# Altium schematic symbol library Schlib1.SchLib: 43 symbols
Pins are listed as number, name and electrical type; pins without a type are passive.

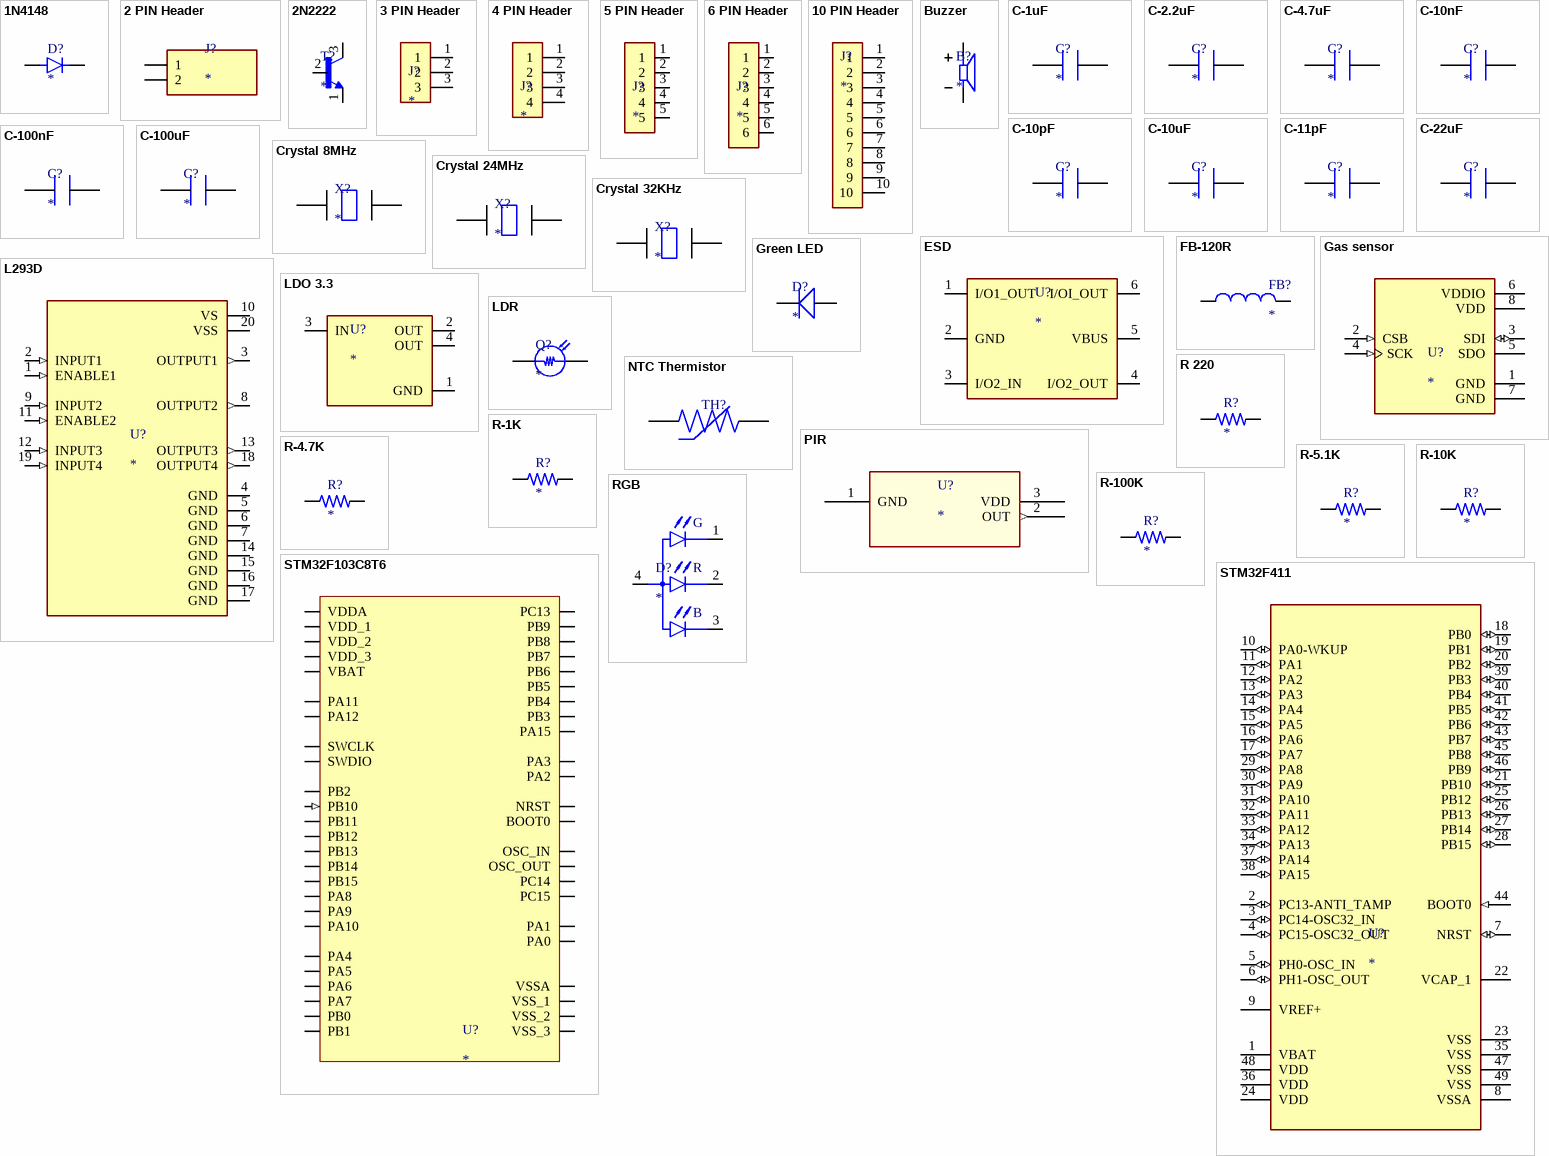
[diagram p0: symbols 1N4148 to STM32F411]

## 1N4148
designator D?
DIODE GP 100V 200mA DO-35; MFR: onsemi; MFR Part#: 1N4148; Supplier: LCSC; Supplier Part#: C258182; ComponentLink1Description: New link; ComponentLink1URL: https://www.lcsc.com/product-detail/C258182.html?s_z=n_q_x_1N4148&spm=wm.ssy.em.0.tz&lcsc_vid=T1EIXgIEFgJdUgdfFAVeA1ADFlcIAQJWFVRdA1ZXFlMxVlNeT1JbXlNXRVlfUTsOAxUeFF5JWBYZEEoKFBINSQcJGk4eFQsCAgIaSgADAwAHC0slRVFYVlJVRlhADxALGw%3D%3D
footprint DIOM3413X180N (Molded Diode, 2-Leads, Body 3.45x1.30mm, IPC Medium Density)
pins: A, K

## 2 PIN Header
designator J?
Pin Header 2 Position Dual Row Through Hole -55℃~+125℃; MFR: Samtec; MFR Part#: MTSW-101-09-L-D-515; Supplier: LCSC; Supplier Part#: C5684114; ComponentLink1Description: New link; ComponentLink1URL: https://www.lcsc.com/product-detail/C5684114.html?s_z=n_q_MTSW-101-09-L-D-515&spm=wm.fly.bg.0.cbh&lcsc_vid=T1EIXgIEFgJdUgdfFAVeA1ADFlcIAQJWFVRdA1ZXFlMxVlNeT1JYX1JeRVhXUjsOAxUeFF5JWBYZEEoKFBINSQcJGk4eFQsCAgIaSgADAwAHC0slRVhZVlZfRE8GEwkK
footprint 2 PIN Header
pins: 1, 2

## 2N2222
designator T?
NPN Plastic-Encapsulate Transistors; MFR: HXY MOSFET; MFR Part#: 2N2222A; Supplier: LCSC; Supplier Part#: C20616319; ComponentLink1Description: New link; ComponentLink1URL: https://www.lcsc.com/product-detail/C20616319.html?s_z=n_q_x_2N2222A&spm=wm.ssy.em.0.tz&lcsc_vid=T1EIXgIEFgJdUgdfFAVeA1ADFlcIAQJWFVRdA1ZXFlMxVlNeT1JbXlRVT1ZXXjsOAxUeFF5JWBYZEEoKFBINSQcJGk4NBhADEA4cHktXQFJaSQwSGg0%3D
footprint 2N2222
pins: 1 E, 2 B, 3 C

## 3 PIN Header
designator J?
Parameter 1: *; Parameter 2: *; Parameter 3: *; Parameter 4: *; ComponentLink1Description: New link; ComponentLink1URL: *
footprint PIN 3 Header
pins: 1, 2, 3

## 4 PIN Header
designator J?
MFR: hanxia; MFR PART #: HX PH254-01-04-Z-L11.5 straight pin header; SUPPLIER: LCSC; SUPPLIER PART #: C52016392; ComponentLink1Description: New link; ComponentLink1URL: https://www.lcsc.com/product-detail/C52016392.html?s_z=n_q_t_4%2520PIN%2520Header&spm=wm.fly.bg.0.xh___wm.ssy.tc.0.tz&lcsc_vid=QgVYVVJWE1VfXwZQRQQNBFIETgIPBFxQQFYPXlAFEgMxVlNeQFVcUFVeQFNaVjsOAxUeFF5JWBYZEEoKFBINSQcJGk4eFQsCAgIaSgADAwAHC0slRVNXUVZIHxUDCw%3D%3D
footprint Header 4pin
pins: 1, 2, 3, 4

## 5 PIN Header
designator J?
MFR: Samtec; MFR PART #: TW-05-06-G-S-325-100; SPN PART #: C6574167; SPN: LCSC; ComponentLink1Description: New link; ComponentLink1URL: https://www.lcsc.com/product-detail/C6574167.html?s_z=n_q_C6574167&globalKeyword=C6574167
footprint 5 PIN HEADER
pins: 1, 2, 3, 4, 5

## 6 PIN Header
designator J?
MFR: hanxia; MFR PART #: HX PH200-02-06-S-L8.0-D pin header; SPN PART #: C52016389; SPN: LCSC; ComponentLink1Description: New link; ComponentLink1URL: https://www.lcsc.com/product-detail/C52016389.html?s_z=n_q_t_6%2520pin%2520header&spm=wm.fly.bg.2.cbh___wm.ssy.tc.0.tz&lcsc_vid=QFZbUgBVFFkNBVVUFAUIUwJQFFQLVAJVRwdaVFNRRlYxVlNeQFdeVldfQ1BWVDsOAxUeFF5JWBYZEEoKFBINSQcJGk4eFQsCAgIaSgADAwAHC0slQVRZU1VQQE8GEwkK
footprint 6 PIN HEADER
pins: 1, 2, 3, 4, 5, 6

## 10 PIN Header
designator J?
MFR: TE Connectivity; MFR PART #: 1-826631-0; SPN PART #: C3333605; SPN: LCSC; ComponentLink1Description: New link; ComponentLink1URL: https://www.lcsc.com/product-detail/C3333605.html?s_z=n_q_1-826631-0&spm=wm.fly.bg.0.cbh&lcsc_vid=QgVYVVJWE1VfXwZQRQQNBFIETgIPBFxQQFYPXlAFEgMxVlNeQFVWUlRXQFNbXjsOAxUeFF5JWBYZEEoKFBINSQcJGk4%3D
footprint 10 PIN Header
pins: 1, 2, 3, 4, 5, 6, 7, 8, 9, 10

## Buzzer
designator B?
Through Hole Alarms, Buzzers, and Sirens RoHS; MFR: CUI; MFR Part#: CMI-1210-5-95T; Supplier: LCSC; Supplier Part#: C6485139; ComponentLink1Description: New link; ComponentLink1URL: https://www.lcsc.com/product-detail/C6485139.html?s_z=n_q_CMI-1210-5-95T&spm=wm.fly.bg.0.xh&lcsc_vid=T1EIXgIEFgJdUgdfFAVeA1ADFlcIAQJWFVRdA1ZXFlMxVlNeT1JbX1FfQ1lXVDsOAxUeFF5JWBYZEEoKFBINSQcJGk4eFQsCAgIaSgADAwAHC0slRlNXVlFXWQkaCgg%3D
footprint Buzzer
pins: N, P

## C-1uF
designator C?
MFR: Samsung Electro-Mechanics; MFR PART#: CL10B105KA8NNNC; SUPPLIER: LCSC; ComponentLink1Description: New link; ComponentLink1URL: https://www.lcsc.com/product-detail/C29936.html?s_z=n_q_t_Capacitor%25201uF&spm=wm.fly.bg.0.cbh___wm.ssy.tc.0.tz&lcsc_vid=QgVYVVJWE1VfXwZQRQQNBFIETgIPBFxQQFYPXlAFEgMxVlNeQFJXUFdQT1hcVzsOAxUeFF5JWBYZEEoKFBINSQcJGk4eFQsCAgIaSgADAwAHC0slRlFeV1BUWQkaCgg%3D; SUPPLIER PART#: C29936
footprint CAPC0804X80N (Chip Capacitor, 2-Leads, Body 0.85x0.45mm, IPC Medium Density)
pins: 1, 2

## C-2.2uF
designator C?
MFR: YAGEO; MFR PART#: CC1206KKX7R0BB225; SPN PART #: C577211; SPN: LCSC; ComponentLink1Description: New link; ComponentLink1URL: https://www.lcsc.com/product-detail/C577211.html?s_z=n_q_t_capacitor%25202.2u&spm=wm.fly.bg.0.cbh___wm.ssy.tc.0.tz&lcsc_vid=QgVYVVJWE1VfXwZQRQQNBFIETgIPBFxQQFYPXlAFEgMxVlNeQFRWUF1URFhbUTsOAxUeFF5JWBYZEEoKFBINSQcJGk4dAgUUFAk%3D
footprint CAPC1809X80N (Chip Capacitor, 2-Leads, Body 1.75x0.90mm, IPC Medium Density)
pins: 1, 2

## C-4.7uF
designator C?
MFR: SAMYOUNG; MFR PART #: MVK 50V4.7 5*5.2; SUPPLIER: LCSC; SUPPLIER PART #: C165626; ComponentLink1Description: New link; ComponentLink1URL: https://www.lcsc.com/product-detail/C165626.html?s_z=n_q_C165626&globalKeyword=C165626
footprint CAPC1007X45N (Chip Capacitor, 2-Leads, Body 1.05x0.68mm, IPC Medium Density)
pins: 1, 2

## C-10nF
designator C?
MFR: YAGEO; MFR PART #: CC0603KRX7R9BB103; SUPPLIER: LCSC; SUPPLIER PART#: C100042; ComponentLink1Description: New link; ComponentLink1URL: https://www.lcsc.com/product-detail/C100042.html?s_z=n_q_t_capacitor%252010nf&spm=wm.fly.bg.0.cbh___wm.ssy.tc.0.tz&lcsc_vid=QgVYVVJWE1VfXwZQRQQNBFIETgIPBFxQQFYPXlAFEgMxVlNeQFJXUFVVQFVZXjsOAxUeFF5JWBYZEEoKFBINSQcJGk4eFQsCAgIaSgADAwAHC0slRlBWVVxeWQkaCgg%3D
footprint CAPC0804X80N (Chip Capacitor, 2-Leads, Body 0.85x0.45mm, IPC Medium Density)
pins: 1, 2

## C-10pF
designator C?
MFR: Samsung Electro-Mechanics; MFR PART #: CL10C100JB8NNNC; SUPPLIER: LCSC; SUPPLIER PART #: C1634; ComponentLink1Description: New link; ComponentLink1URL: C1634
footprint C-10pF (Chip Capacitor, 2-Leads, Body 2.45x1.75mm, IPC Medium Density)
pins: 1, 2

## C-10uF
designator C?
MFR: Samsung Electro-Mechanics; MFR PART #: CL31A106KBHNNNE; SUPPLIER: LCSC; SUPPLIER PART #: C13585; ComponentLink1Description: New link; ComponentLink1URL: https://www.lcsc.com/product-detail/C13585.html?s_z=n_q_t_Capacitor%252010u&spm=wm.fly.bg.0.cbh___wm.ssy.tc.0.tz&lcsc_vid=QgVYVVJWE1VfXwZQRQQNBFIETgIPBFxQQFYPXlAFEgMxVlNeQFVeXldRQVBdXjsOAxUeFF5JWBYZEEoKFBINSQcJGk4dAgUUFAk%3D
footprint C-10uF (Chip Capacitor, 2-Leads, Body 1.68x0.88mm, IPC Medium Density)
pins: 1, 2

## C-11pF
designator C?
MFR: muRata; MFR PART: GRM0335C1E110JA01D; SUPPLIER: LCSC; SUPPLIER PART #: C2183483
footprint C-10pF (Chip Capacitor, 2-Leads, Body 2.45x1.75mm, IPC Medium Density)
pins: 1, 2

## C-22uF
designator C?
MFR: muRata; MJFR PART #: GRM21BR61E226ME44L; SUPPLIER: LCSC; SUPPLIER PART #: C86816; ComponentLink1Description: New link; ComponentLink1URL: *; ComponentLink2Description: New link 1; ComponentLink2URL: https://www.lcsc.com/product-detail/C86816.html?s_z=n_q_t_Capacitor%252022uf&spm=wm.fly.bg.0.cbh___wm.ssy.tc.0.tz&lcsc_vid=QgVYVVJWE1VfXwZQRQQNBFIETgIPBFxQQFYPXlAFEgMxVlNeQFVeXlFSR1laVzsOAxUeFF5JWBYZEEoKFBINSQcJGk4eFQsCAgIaSgADAwAHC0slRlJbX1FIHxUDCw%3D%3D
footprint C-22uF (Chip Capacitor, 2-Leads, Body 1.10x0.73mm, IPC Medium Density)
pins: 1, 2

## C-100nF
designator C?
MFR: TDK; MFR PART#: CGA5L2X7R2A104KT0Y0U; SUPPLIER: LCSC; SUPPLIER PART#: C338057; ComponentLink1Description: New link; ComponentLink1URL: https://www.lcsc.com/product-detail/C338057.html?s_z=n_q_C338057&globalKeyword=C338057
footprint CAPC1007X45N (Chip Capacitor, 2-Leads, Body 1.05x0.68mm, IPC Medium Density)
pins: 1, 2

## C-100uF
designator C?
CAP CER 100uF 6.3V X5R 1206; MFR: Samsung Electro-Mechanics; MFR Part#: CL31A107MQHNNNE; ComponentLink1Description: New link; ComponentLink1URL: https://www.lcsc.com/product-detail/C15008.html?s_z=n_q_t_Capacitor%2520100u&spm=wm.fly.bg.0.xh___wm.ssy.tc.0.tz&lcsc_vid=T1EIXgIEFgJdUgdfFAVeA1ADFlcIAQJWFVRdA1ZXFlMxVlNeT1JZV1BfR1VbUTsOAxUeFF5JWBYZEEoKFBINSQcJGk4NBhADEA4cHktRTlNADxALGw%3D%3D; Supplier: LCSC; Supplier Part#: C15008
footprint CAPC1709X35N (Chip Capacitor, 2-Leads, Body 1.70x0.90mm, IPC Medium Density)
pins: 1, 2

## Crystal 8MHz
designator X?
CRYSTAL 8MHz 12pF SMD; MFR: YXC Crystal Oscillators; MFR PART #: X32258MOB4SI; SUPPLIER: LCSC; SUPPLIER PART #: C2682775; ComponentLink1Description: New link; ComponentLink1URL: https://www.lcsc.com/product-detail/C2682775.html?s_z=n_q_crystal%25208&spm=wm.fly.bg.0.cbh&lcsc_vid=QgVYVVJWE1VfXwZQRQQNBFIETgIPBFxQQFYPXlAFEgMxVlNeQFJXX1JeQlVYUDsOAxUeFF5JWBYZEEoKFBINSQcJGk4eFQsCAgIaSgADAwAHC0slRFJWV1FRWQkaCgg%3D
footprint crystal 8Mz
pins: 1, 2

## Crystal 24MHz
designator X?
MFR: YXC Crystal Oscillators; MFR PART #: XL7EL89CKI-111YLC-24M; SPN PART #: C2965580; SPN: LCSC; ComponentLink1Description: New link; ComponentLink1URL: *https://www.lcsc.com/product-detail/C2965580.html?s_z=n_q_Crystal%252024MHz&spm=wm.fly.bg.0.cbh&lcsc_vid=QFZbUgBVFFkNBVVUFAUIUwJQFFQLVAJVRwdaVFNRRlYxVlNeQFdeVFZQQlBeVDsOAxUeFF5JWBYZEEoKFBINSQcJGk4NBhADEA4cHktRTlNADxALGw%3D%3D
footprint crystal 8Mz
pins: 1, 2

## Crystal 32KHz
designator X?
Crystal 32kHz ±100ppm 11pF 35kΩ DT-26; MFR: EPSON; MFR PART#: C-2 32.0000K-P:PBFREE; ComponentLink1Description: New link; ComponentLink1URL: https://www.lcsc.com/product-detail/C1669824.html?s_z=n_q_p_MC-306%252032.0000K-G%253A%2520PURE%2520SN.&spm=wm.ssy.bg.1.cbh&lcsc_vid=QgVYVVJWE1VfXwZQRQQNBFIETgIPBFxQQFYPXlAFEgMxVlNeQFVeV1NVQVVaVDsOAxUeFF5JWBYZEEoKFBINSQcJGk4NBhADEA4cHktXRlRbSQwSGg0%3D; SUPPLIER: LCSC; SUPPLIER PART #: C1669824
footprint Crystal 32KHz
pins: 1, 2

## ESD
designator U?
MFR: ST; MFR PART #: USBLC6-2SC6; SUPPLIER: LCSC; SUPPLIER PART #: C7519; ComponentLink1Description: New link; ComponentLink1URL: https://www.lcsc.com/product-detail/C7519.html?s_z=n_q_USBLC62SC6&spm=wm.fly.bg.0.xh&lcsc_vid=R1MIBQFWRANZAVdREQcIVV1fQVhaBlMEQwUKAQJQE1IxVlNeQFVeUldeRFBeVDsOAxUeFF5JWBYZEEoKFBINSQcJGk4dAgUUFAk%3D
footprint ESD
pins: 1 I/O1_OUT, 2 GND, 3 I/O2_IN, 4 I/O2_OUT, 5 VBUS, 6 I/OI_OUT

## FB-120R
designator FB?
MFR: muRata; MFR PART#: BLM18PG121SN1D; SPN PART#: C14709; SPN: LCSC; ComponentLink1Description: New link; ComponentLink1URL: https://www.lcsc.com/product-detail/C14709.html?s_z=n_q_Ferrite%2520bead%2520120r&spm=wm.fly.bg.0.cbh&lcsc_vid=QgVYVVJWE1VfXwZQRQQNBFIETgIPBFxQQFYPXlAFEgMxVlNeQFRWX11TR1FZXzsOAxUeFF5JWBYZEEoKFBINSQcJGk4NBhADEA4cHktXRlVcSQwSGg0%3D
footprint FB-120R
pins: 1, 2

## Gas sensor
designator U?
MFR: Bosch; MFR Part#: BME688; Supplier: LCSC; Supplier Part #: C3664478; ComponentLink1Description: New link; ComponentLink1URL: https://www.lcsc.com/product-detail/C3664478.html?s_z=n_q_x_BME688&spm=wm.ssy.em.0.tz&lcsc_vid=T1EIXgIEFgJdUgdfFAVeA1ADFlcIAQJWFVRdA1ZXFlMxVlNeT1JZVFFWRVJXXjsOAxUeFF5JWBYZEEoKFBINSQcJGk4dAgUUFAk%3D
footprint Gas sensor
pins: 1 GND (power), 2 CSB (in), 3 SDI (io), 4 SCK (in), 5 SDO, 6 VDDIO (power), 7 GND (power), 8 VDD (power)

## Green LED
designator D?
MFR: NATIONSTAR; MFR PART #: NATIONSTAR; SUPPLIER: LCSC; SUPPLIER PART #: C84260; ComponentLink1Description: New link; ComponentLink1URL: https://www.lcsc.com/product-detail/C84260.html?s_z=n_q_t_Green%2520led&spm=wm.fly.bg.0.cbh___wm.ssy.tc.0.tz&lcsc_vid=QgVYVVJWE1VfXwZQRQQNBFIETgIPBFxQQFYPXlAFEgMxVlNeQFVcUVVXTlJaUzsOAxUeFF5JWBYZEEoKFBINSQcJGk4eFQsCAgIaSgADAwAHC0slRlJbX1FIHxUDCw%3D%3D
footprint Green LED (MELF Diode, 2-Leads, Body 2.25x1.10mm, IPC Medium Density)
pins: 1, 2

## L293D
designator U?
PUSH-PULL FOUR CHANNEL DRIVER WITH DIODES; MFR: ST; MFR Part#: L293DD; Supplier: LCSC; Supplier Part#: C2971293; ComponentLink1Description: New link; ComponentLink1URL: https://www.lcsc.com/product-detail/C2971293.html?s_z=n_q_x_L293DD&spm=wm.ssy.em.0.tz&lcsc_vid=T1EIXgIEFgJdUgdfFAVeA1ADFlcIAQJWFVRdA1ZXFlMxVlNeT1JYUFdeT1dZVzsOAxUeFF5JWBYZEEoKFBINSQcJGk4NBhADEA4cHktSRlFADxALGw%3D%3D
footprint L293D
pins: 1 ENABLE1 (in), 2 INPUT1 (in), 3 OUTPUT1 (out), 4 GND (power), 5 GND (power), 6 GND (power), 7 GND (power), 8 OUTPUT2 (out), 9 INPUT2 (in), 10 VS (power), 11 ENABLE2 (in), 12 INPUT3 (in), 13 OUTPUT3 (out), 14 GND (power), 15 GND (power), 16 GND (power), 17 GND (power), 18 OUTPUT4 (out), 19 INPUT4 (in), 20 VSS (power)

## LDO 3.3
designator U?
MFR: Advanced Monolithic Systems; MFR PART #: LTC1844ES5-3.3#TRMPBF; MFR PART: AMS1117-3.3; Suplier: LCSC; SUPPLIER: LCSC; SUPPLIER PART #: C580445; ComponentLink1Description: New link; ComponentLink1URL: https://www.lcsc.com/product-detail/C6186.html?s_z=n_q_AMS1117-3.3&spm=wm.fly.bg.0.cbh&lcsc_vid=QgVYVVJWE1VfXwZQRQQNBFIETgIPBFxQQFYPXlAFEgMxVlNeQFVeX1FTTlFbVzsOAxUeFF5JWBYZEEoKFBINSQcJGk4NBhADEA4cHktXR1JcSQwSGg0%3D; SUPPLIER PART: C6186
footprint LDO 3.3
pins: 1 GND, 2 OUT, 3 IN, 4 OUT

## LDR
designator Q?
Silicon NPN Phototransistor, RoHS Compliant; MFR: VISHAY; MFR Part#: TEMT1020; Supplier: LCSC; Supplier Part#: C129151; ComponentLink1Description: New link; ComponentLink1URL: https://www.lcsc.com/product-detail/C129151.html?s_z=n_q_TEMT1020&spm=wm.fly.bg.0.xh&lcsc_vid=T1EIXgIEFgJdUgdfFAVeA1ADFlcIAQJWFVRdA1ZXFlMxVlNeT1JbUFFXRVNdVzsOAxUeFF5JWBYZEEoKFBINSQcJGk4NBhADEA4cHktXRVZcSQwSGg0%3D
footprint LDR
pins: 1, 2

## NTC Thermistor
designator TH?
THERMISTOR NTC 100kΩ 4250K 0402; MFR: muRata; MFR Part#: NCU15WF104D60RC; Supplier: LCSC; Supplier part#: C426654; ComponentLink1Description: New link; ComponentLink1URL: https://www.lcsc.com/product-detail/C426654.html?s_z=n_q_NCU15WF104D60RC&spm=wm.fly.bg.0.xh&lcsc_vid=T1EIXgIEFgJdUgdfFAVeA1ADFlcIAQJWFVRdA1ZXFlMxVlNeT1JbVFFRT1FcXjsOAxUeFF5JWBYZEEoKFBINSQcJGk4MFQUIE0wKAhAHHg1BVl1fWQkaCgg%3D
footprint NTC
pins: 1, 2

## PIR
designator U?
PIRs motion sensor; MFR: PANASONIC; MFR Part#: EKMC1601111; Supplier: LCSC; Supplier Part#: C2684441; ComponentLink1Description: New link; ComponentLink1URL: https://www.lcsc.com/product-detail/C2684441.html?s_z=n_q_EKMC1601111&spm=wm.fly.bg.0.xh&lcsc_vid=T1EIXgIEFgJdUgdfFAVeA1ADFlcIAQJWFVRdA1ZXFlMxVlNeT1JbUVdSTllbUTsOAxUeFF5JWBYZEEoKFBINSQcJGk4NBhADEA4cHktXRVRdSQwSGg0%3D
footprint PIR
pins: 1 GND (power), 2 OUT (out), 3 VDD (power)

## R 220
designator R?
MFR: UNI-ROYAL; MFR PART #: 0603WAF2200T5E; SUPPLIER: LCSC; SUPPLIER PART #: C22962; ComponentLink1Description: New link; ComponentLink1URL: https://www.lcsc.com/product-detail/C22962.html?s_z=n_q_t_Resistor%2520220&spm=wm.fly.bg.0.cbh___wm.ssy.tc.0.tz&lcsc_vid=QgVYVVJWE1VfXwZQRQQNBFIETgIPBFxQQFYPXlAFEgMxVlNeQFVcUVFXRFlbXjsOAxUeFF5JWBYZEEoKFBINSQcJGk4dAgUUFAk%3D
footprint R-220 (Chip Resistor, 2-Leads, Body 3.22x1.70mm, IPC Medium Density)
pins: 1, 2

## R-1K
designator R?
MFR: FOJAN; MFR PART #: FRC0603F1001TS; SPN PART#: C2907002; SPN: LCSC; ComponentLink1Description: New link; ComponentLink1URL: https://www.lcsc.com/product-detail/C2907002.html?s_z=n_q_t_Resistor%25201k&spm=wm.fly.bg.0.cbh___wm.ssy.tc.0.tz&lcsc_vid=QgVYVVJWE1VfXwZQRQQNBFIETgIPBFxQQFYPXlAFEgMxVlNeQFRWX1ZeRFddVzsOAxUeFF5JWBYZEEoKFBINSQcJGk4eFQsCAgIaSgADAwAHC0slQlZZVVVXWQkaCgg%3D
footprint RESC0804X45N (Chip Resistor, 2-Leads, Body 0.85x0.45mm, IPC Medium Density)
pins: 1, 2

## R-4.7K
designator R?
RES 4.7kΩ ±1% 100mW 0603; MFR: YAGEO; MFR Part#: RC0603FR-074K7L; SPN Part#: C99782; SPN: LCSC; ComponentLink1Description: New link; ComponentLink1URL: https://www.lcsc.com/product-detail/C99782.html?s_z=n_q_t_Resistor%25204.7&spm=wm.fly.bg.0.xh___wm.ssy.tc.0.tz&lcsc_vid=T1EIXgIEFgJdUgdfFAVeA1ADFlcIAQJWFVRdA1ZXFlMxVlNeT1JZXlBQQFlfVjsOAxUeFF5JWBYZEEoKFBINSQcJGk4eFQsCAgIaSgADAwAHC0slRFFXU1FVQU8GEwkK
footprint RESC1007X50N (Chip Resistor, 2-Leads, Body 1.05x0.68mm, IPC Medium Density)
pins: 1, 2

## R-5.1K
designator R?
MFR: YAGEO; MFR PART #: RC0402FR-075K1L; SUPPLIER: LCSC; SUPPLIER PART #: C105872; ComponentLink1Description: New link; ComponentLink1URL: https://www.lcsc.com/product-detail/C105872.html?s_z=n_q_p_Resistance%25205.1K&spm=wm.ssy.bg.0.cbh&lcsc_vid=QgVYVVJWE1VfXwZQRQQNBFIETgIPBFxQQFYPXlAFEgMxVlNeQFVeU1NTRFFbUTsOAxUeFF5JWBYZEEoKFBINSQcJGk4NBhADEA4cHktXRlVcSQwSGg0%3D
footprint R-5.1K (Chip Resistor, 2-Leads, Body 0.53x0.28mm, IPC Medium Density)
pins: 1, 2

## R-10K
designator R?
MFR: YAGEO; MFR PART#: RC0603FR-0710KL; SPN PART #: C98220; SPN: LCSC; ComponentLink1Description: New link; ComponentLink1URL: https://www.lcsc.com/product-detail/C98220.html?s_z=n_q_t_Resistor%252010k&spm=wm.fly.bg.0.cbh___wm.ssy.tc.0.tz&lcsc_vid=QgVYVVJWE1VfXwZQRQQNBFIETgIPBFxQQFYPXlAFEgMxVlNeQFVWUlxQQVNaUDsOAxUeFF5JWBYZEEoKFBINSQcJGk4eFQsCAgIaSgADAwAHC0slRVZXXlFWT08GEwkK
footprint R-10K (Chip Resistor, 2-Leads, Body 0.85x0.45mm, IPC Medium Density)
pins: 1, 2

## R-100K
designator R?
RES 100kΩ ±1% 62.5mW 0402; MFR: YAGEO; MFR part#: RC0402FR-07100KL; Supplier: LCSC; Supplier part#: C60491; ComponentLink1Description: New link; ComponentLink1URL: https://www.lcsc.com/product-detail/C60491.html?s_z=n_q_t_Resistor%2520100&spm=wm.fly.bg.2.xh___wm.ssy.tc.0.tz&lcsc_vid=T1EIXgIEFgJdUgdfFAVeA1ADFlcIAQJWFVRdA1ZXFlMxVlNeT1JbU1FWRFFaVDsOAxUeFF5JWBYZEEoKFBINSQcJGk4eFQsCAgIaSgADAwAHC0slQ1NYUVFSWQkaCgg%3D
footprint RESC0503X35N (Chip Resistor, 2-Leads, Body 0.53x0.28mm, IPC Medium Density)
pins: 1, 2

## RGB
designator D?
12x12 Red, Green, Blue(RGB) LED Dot Matrix and Cluster RoHS; MFR: Inolux; MFR Part#: INCM88001; Supplier: LCSC; Supplier Part#: C7288959; ComponentLink1Description: New link; ComponentLink1URL: https://www.lcsc.com/product-detail/C7288959.html?s_z=n_q_t_RGB%2520LED&spm=wm.fly.bg.0.xh___wm.ssy.tc.0.tz&lcsc_vid=T1EIXgIEFgJdUgdfFAVeA1ADFlcIAQJWFVRdA1ZXFlMxVlNeT1JYVVBXTlBYVjsOAxUeFF5JWBYZEEoKFBINSQcJGk4eFQsCAgIaSgADAwAHC0slRVRWVlxUWQkaCgg%3D
footprint RGB
pins: 1 C1, 2 C2, 3 C3, 4 A
text: G; R; B

## STM32F103C8T6
designator U?
Medium-density performance line Arm-based 32-bit MCU with 64 or 128 KB Flash, USB, CAN, 7 timers, 2 ADCs, 9 com. interfaces; MFR: ST; MFR PART #: STM32F103C8T6; SUPPLIER: LSCS; SUPPLIER PART #: C8734; ComponentLink1Description: DATASHEET; ComponentLink1URL: https://www.lcsc.com/datasheet/C8734.pdf?spm=wm.sxq.inf.ggs___wm.ssy.bg.0.xh&lcsc_vid=QgVYVVJWE1VfXwZQRQQNBFIETgIPBFxQQFYPXlAFEgMxVlNeQFJcUFVVRVZXXjsOAxUeFF5JWBYZEEoKFBINSQcJGk4%3D; ComponentLink2Description: LSCS; ComponentLink2URL: https://www.lcsc.com/product-detail/C8734.html?s_z=n_q_p_STM32F10C8T6&spm=wm.ssy.bg.0.xh&lcsc_vid=QgVYVVJWE1VfXwZQRQQNBFIETgIPBFxQQFYPXlAFEgMxVlNeQFJcUFVVRVZXXjsOAxUeFF5JWBYZEEoKFBINSQcJGk4%3D
footprint STM32
pins: 1 VBAT, 2 PC13 (io), 3 PC14, 4 PC15, 5 OSC_IN, 6 OSC_OUT, 7 NRST, 8 VSSA, 9 VDDA, 10 PA0 (io), 11 PA1 (io), 12 PA2 (io), 13 PA3 (io), 14 PA4 (io), 15 PA5 (io), 16 PA6 (io), 17 PA7 (io), 18 PB0 (io), 19 PB1 (io), 20 PB2 (io), 21 PB10 (in), 22 PB11 (io), 23 VSS_1, 24 VDD_1, 25 PB12 (io), 26 PB13 (io), 27 PB14 (io), 28 PB15 (io), 29 PA8 (io), 30 PA9 (io), 31 PA10 (io), 32 PA11, 33 PA12, 34 SWDIO, 35 VSS_2, 36 VDD_2, 37 SWCLK, 38 PA15 (io), 39 PB3 (io), 40 PB4 (io), 41 PB5 (io), 42 PB6 (io), 43 PB7 (io), 44 BOOT0, 45 PB8 (io), 46 PB9 (io), 47 VSS_3, 48 VDD_3

## STM32F411
designator U?
MFR: ST; MFR PART#: STM32F411CEU6; SPN PART#: C60420; SPN: LCSC; ComponentLink1Description: New link; ComponentLink1URL: https://www.lcsc.com/product-detail/C60420.html?s_z=n_q_STM32F411CEU6&spm=wm.fly.bg.0.cbh&lcsc_vid=QgVYVVJWE1VfXwZQRQQNBFIETgIPBFxQQFYPXlAFEgMxVlNeQFRXX11fQ1dbVTsOAxUeFF5JWBYZEEoKFBINSQcJGk4NBhADEA4cHktXRlZeSQwSGg0%3D
footprint STM32F411
pins: 1 VBAT (power), 2 PC13-ANTI_TAMP (io), 3 PC14-OSC32_IN (io), 4 PC15-OSC32_OUT (io), 5 PH0-OSC_IN (io), 6 PH1-OSC_OUT (io), 7 NRST (io), 8 VSSA (power), 9 VREF+ (power), 10 PA0-WKUP (io), 11 PA1 (io), 12 PA2 (io), 13 PA3 (io), 14 PA4 (io), 15 PA5 (io), 16 PA6 (io), 17 PA7 (io), 18 PB0 (io), 19 PB1 (io), 20 PB2 (io), 21 PB10 (io), 22 VCAP_1 (power), 23 VSS (power), 24 VDD (power), 25 PB12 (io), 26 PB13 (io), 27 PB14 (io), 28 PB15 (io), 29 PA8 (io), 30 PA9 (io), 31 PA10 (io), 32 PA11 (io), 33 PA12 (io), 34 PA13 (io), 35 VSS (power), 36 VDD (power), 37 PA14 (io), 38 PA15 (io), 39 PB3 (io), 40 PB4 (io), 41 PB5 (io), 42 PB6 (io), 43 PB7 (io), 44 BOOT0 (in), 45 PB8 (io), 46 PB9 (io), 47 VSS (power), 48 VDD (power), 49 VSS (power)

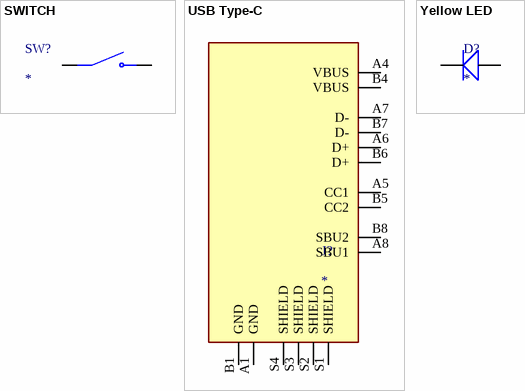
[diagram p1: symbols SWITCH to Yellow LED]

## SWITCH
designator SW?
MFR: C&K; MFR PART#: L101011ML04Q; SPN PART #: C2799508; SPN: LCSC; ComponentLink1Description: New link; ComponentLink1URL: https://www.lcsc.com/product-detail/C2799508.html?s_z=n_q_L101011ML04Q&spm=wm.fly.bg.0.cbh&lcsc_vid=QgVYVVJWE1VfXwZQRQQNBFIETgIPBFxQQFYPXlAFEgMxVlNeQFVWUlBeT1BYVDsOAxUeFF5JWBYZEEoKFBINSQcJGk4NBhADEA4cHktRTlNADxALGw%3D%3D
footprint SWITCH
pins: 1, 2

## USB Type-C
designator J?
MFR: Korean Hroparts Elec; MFR PART #: TYPE-C-31-M-12; SUPPLIER: LCSC; SUPPLIER PART #: C165948; ComponentLink1Description: New link; ComponentLink1URL: https://www.lcsc.com/product-detail/C165948.html?s_z=n_q_p_USB%2520type%2520c&spm=wm.ssy.bg.1.cbh&lcsc_vid=QgVYVVJWE1VfXwZQRQQNBFIETgIPBFxQQFYPXlAFEgMxVlNeQFVeVFZQRVNcVjsOAxUeFF5JWBYZEEoKFBINSQcJGk4eFQsCAgIaSgADAwAHC0slRVBWVFBeRE8GEwkK
footprint USB_Type-C
pins: A1 GND, A4 VBUS, A5 CC1, A6 D+, A7 D-, A8 SBU1, B1 GND, B4 VBUS, B5 CC2, B6 D+, B7 D-, B8 SBU2, S1 SHIELD, S2 SHIELD, S3 SHIELD, S4 SHIELD

## Yellow LED
designator D?
LED YELLOW WATER CLEAR 0402 SMD; MFR: YONGYUTAI; MFR Part#: YLED0402Y; Supplier: LCSC; Supplier Part#: C20608782; ComponentLink1Description: New link; ComponentLink1URL: https://www.lcsc.com/product-detail/C20608782.html?s_z=n_q_t_Yellow%2520led&spm=wm.fly.bg.0.xh___wm.ssy.tc.0.tz&lcsc_vid=T1EIXgIEFgJdUgdfFAVeA1ADFlcIAQJWFVRdA1ZXFlMxVlNeT1JYVFBRQFZbUDsOAxUeFF5JWBYZEEoKFBINSQcJGk4eFQsCAgIaSgADAwAHC0slQFNWX11TTk8GEwkK
footprint Green LED (MELF Diode, 2-Leads, Body 2.25x1.10mm, IPC Medium Density)
pins: 1, 2